# EAGLE library part LED5050-MARK-NEGATIVE (library hqc-led)
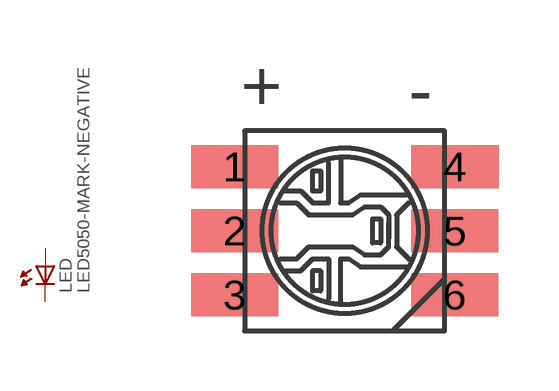
[diagram p0: symbol with the pads of LED5050-MARK-NEGATIVE; footprint LED5050-MARK-NEGATIVE]

Designator prefix LED

## LED5050-MARK-NEGATIVE  [LED5050-MARK-NEGATIVE]
1  P3
2  P2
3  P1
4  N1
5  N2
6  N3

## Footprint LED5050-MARK-NEGATIVE (pad centres in mm)
smd 2.184 x 1.067: 1 -2.75,1.6; 2 -2.75,0; 3 -2.75,-1.6; 4 2.76,1.6; 5 2.75,0; 6 2.75,-1.6